# EAGLE library part TSW-105-07-L-D (library C3-Connector)
Through Hole Post Header
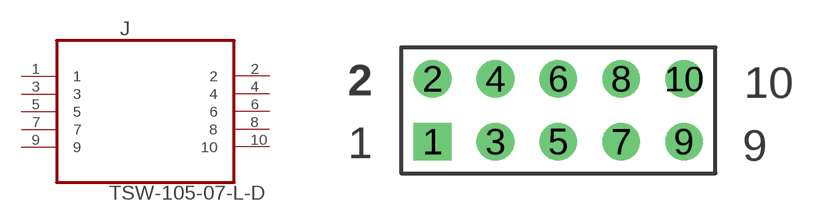
[diagram p6: symbol with the pads of SAMTEC_TSW-105-07-L-D; footprint SAMTEC_TSW-105-07-L-D]

Designator prefix J

## TSW-105-07-L-D (MPN: TSW-105-07-L-D; OC_FARNELL: 2025335; OC_NEWARK: 12P1456; PACKAGE: Post header-10Pin; SUPPLIER: Samtec)  [SAMTEC_TSW-105-07-L-D]
1  1  pas
2  2  pas
3  3  pas
4  4  pas
5  5  pas
6  6  pas
7  7  pas
8  8  pas
9  9  pas
10  10  pas

## Footprint SAMTEC_TSW-105-07-L-D (pad centres in mm)
drill 1.016 square: 1 -10.16,-2.54
drill 1.016: 2 -10.16,0; 3 -7.62,-2.54; 4 -7.62,0; 5 -5.08,-2.54; 6 -5.08,0; 7 -2.54,-2.54; 8 -2.54,0; 9 0,-2.54; 10 0,0